# Altium footprint library SSOP.PcbLib: 7 footprints
Each footprint in its own frame and in the unit in brackets; x right, y up, seen from the top. Pads: shape width x height; smd on the part's side, far side on the other; paste and mask are expansions set on the pad; w line width, h text height; cw(c..) or ccw(c..) is an arc to the next point about the centre after c.
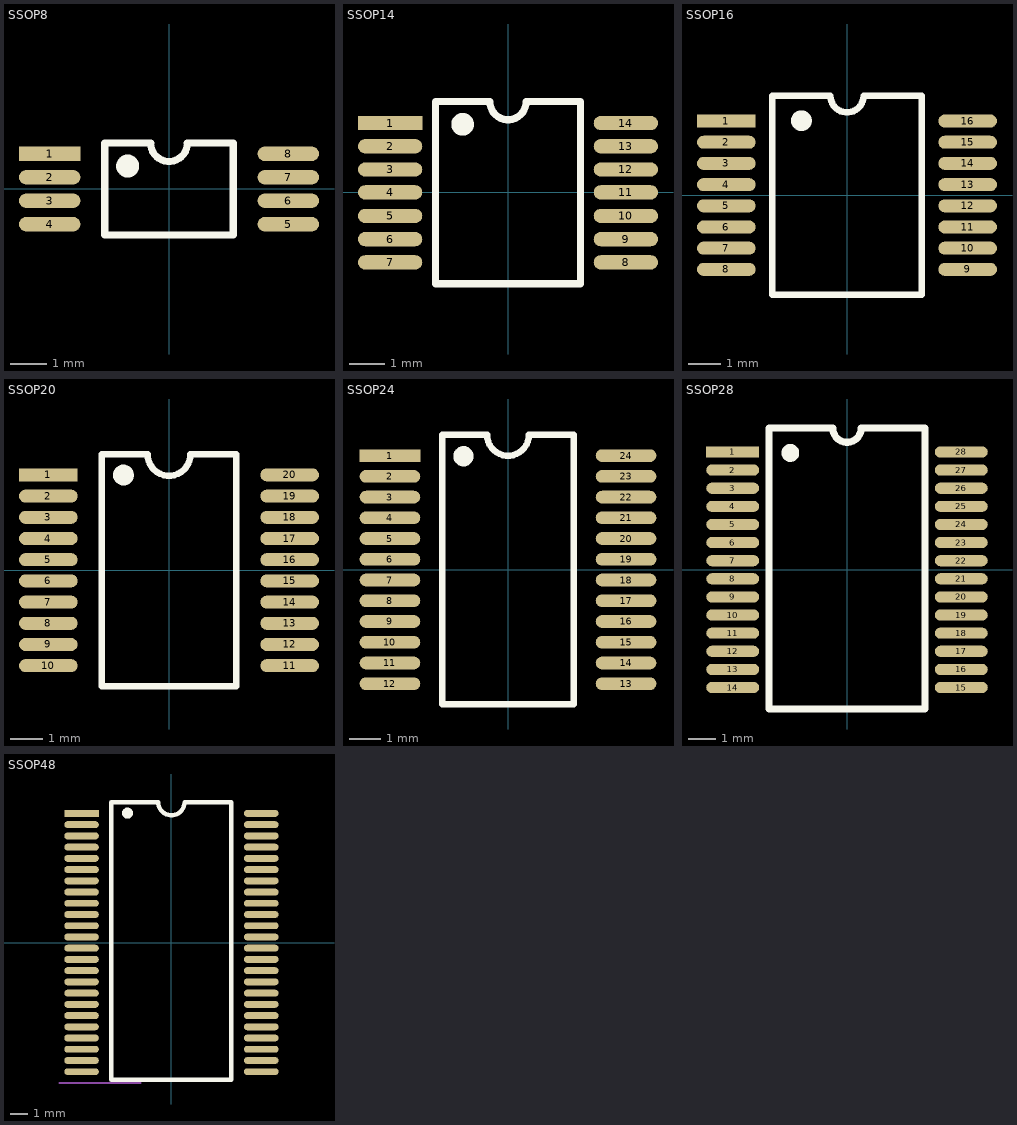
[diagram p0: the footprints below, top view; thin cyan lines are the x and y axes]

## SSOP8 [mm]
pads (8):
  rect 1.7x0.4 smd: 1(-3.3,0.975)
  oval 1.7x0.4 smd: 2(-3.3,0.325) 3(-3.3,-0.325) 4(-3.3,-0.975) 5(3.3,-0.975) 6(3.3,-0.325) 7(3.3,0.325) 8(3.3,0.975)
Top Overlay:
  circle w0.381: c-1.143,0.635 r0.127
  lines w0.2: -1.778,-1.27 1.778,-1.27 1.778,1.27 0.508,1.27 cw(c0,1.27) -0.508,1.27 -1.778,1.27 -1.778,-1.27
3D body "SSOP8.STEP": height 1.25, standoff -0.03, extent -3.202,-1.722 3.202,1.778

## SSOP14 [mm]
height 1.1
pads (14):
  rect 1.8x0.4 smd: 1(-3.3,1.94)
  oval 1.8x0.4 smd: 2(-3.3,1.29) 3(-3.3,0.64) 4(-3.3,0) 5(-3.3,-0.66) 6(-3.3,-1.31) 7(-3.3,-1.96) 8(3.3,-1.96) 9(3.3,-1.31) 10(3.3,-0.66) 11(3.3,0) 12(3.3,0.64) 13(3.3,1.29) 14(3.3,1.94)
Top Overlay:
  circle w0.381: c-1.27,1.905 r0.127
  lines w0.2: -2.032,-2.56 -2.032,2.54 -0.508,2.54 ccw(c0,2.54) 0.508,2.54 2.032,2.54 2.032,-2.56 -2.032,-2.56
3D body "SSOP14.STEP": height 1.25, standoff -0.03, extent -3.278,-2.511 3.126,2.489

## SSOP16 [mm]
pads (16):
  rect 1.8x0.4 smd: 1(-3.7,2.275)
  oval 1.8x0.4 smd: 2(-3.7,1.625) 3(-3.7,0.975) 4(-3.7,0.325) 5(-3.7,-0.325) 6(-3.7,-0.975) 7(-3.7,-1.625) 8(-3.7,-2.275) 9(3.7,-2.275) 10(3.7,-1.625) 11(3.7,-0.975) 12(3.7,-0.325) 13(3.7,0.325) 14(3.7,0.975) 15(3.7,1.625) 16(3.7,2.275)
Top Overlay:
  circle w0.381: c-1.397,2.286 r0.127
  lines w0.2: -2.286,-3.048 -2.286,3.048 -0.508,3.048 ccw(c0,3.048) 0.508,3.048 2.286,3.048 2.286,-3.048 -2.286,-3.048
3D body "SSOP16.STEP": height 1.65, standoff -0.03, extent -3.878,-3.076 3.827,3.124

## SSOP20 [mm]
pads (20):
  rect 1.8x0.4 smd: 1(-3.7,2.925)
  oval 1.8x0.4 smd: 2(-3.7,2.275) 3(-3.7,1.625) 4(-3.7,0.975) 5(-3.7,0.325) 6(-3.7,-0.325) 7(-3.7,-0.975) 8(-3.7,-1.625) 9(-3.7,-2.275) 10(-3.7,-2.925) 11(3.7,-2.925) 12(3.7,-2.275) 13(3.7,-1.625) 14(3.7,-0.975) 15(3.7,-0.325) 16(3.7,0.325) 17(3.7,0.975) 18(3.7,1.625) 19(3.7,2.275) 20(3.7,2.925)
Top Overlay:
  circle w0.381: c-1.397,2.921 r0.127
  lines w0.2: -2.065,-3.556 -2.065,3.556 -0.655,3.556 ccw(c0,3.556) 0.655,3.556 2.065,3.556 2.065,-3.556 -2.065,-3.556
3D body "SSOP20.STEP": height 1.65, standoff -0.03, extent -3.801,-3.593 3.903,3.607

## SSOP24 [mm]
pads (24):
  rect 1.9x0.4 smd: 1(-3.7,3.575)
  oval 1.9x0.4 smd: 2(-3.7,2.925) 3(-3.7,2.275) 4(-3.7,1.625) 5(-3.7,0.975) 6(-3.7,0.325) 7(-3.7,-0.325) 8(-3.7,-0.975) 9(-3.7,-1.625) 10(-3.7,-2.275) 11(-3.7,-2.925) 12(-3.7,-3.575) 13(3.7,-3.575) 14(3.7,-2.925) 15(3.7,-2.275) 16(3.7,-1.625) 17(3.7,-0.975) 18(3.7,-0.325) 19(3.7,0.325) 20(3.7,0.975) 21(3.7,1.625) 22(3.7,2.275) 23(3.7,2.925) 24(3.7,3.575)
Top Overlay:
  circle w0.381: c-1.397,3.556 r0.127
  lines w0.2: -2.065,-4.225 -2.065,4.225 -0.655,4.225 ccw(c0,4.225) 0.655,4.225 2.065,4.225 2.065,-4.225 -2.065,-4.225
3D body "SSOP24.STEP": height 1.65, standoff -0.03, extent -3.751,-4.16 3.954,4.14

## SSOP28 [mm]
pads (28):
  rect 1.9x0.4 smd: 1(-4.1,4.225)
  oval 1.9x0.4 smd: 2(-4.1,3.575) 3(-4.1,2.925) 4(-4.1,2.275) 5(-4.1,1.625) 6(-4.1,0.975) 7(-4.1,0.325) 8(-4.1,-0.325) 9(-4.1,-0.975) 10(-4.1,-1.625) 11(-4.1,-2.275) 12(-4.1,-2.925) 13(-4.1,-3.575) 14(-4.1,-4.225) 15(4.1,-4.225) 16(4.1,-3.575) 17(4.1,-2.925) 18(4.1,-2.275) 19(4.1,-1.625) 20(4.1,-0.975) 21(4.1,-0.325) 22(4.1,0.325) 23(4.1,0.975) 24(4.1,1.625) 25(4.1,2.275) 26(4.1,2.925) 27(4.1,3.575) 28(4.1,4.225)
Top Overlay:
  circle w0.381: c-2.032,4.191 r0.127
  lines w0.254: -2.804,-5 -2.804,5.08 -0.508,5.08 ccw(c0,5.08) 0.508,5.08 2.796,5.08 2.796,-5 -2.804,-5
3D body "SSOP28.STEP": height 1.65, standoff -0.03, extent -3.878,-5.095 3.827,5.105

## SSOP48 [mm]
pads (48):
  rect 2x0.4 smd: 1(-5.2,7.475)
  oval 2x0.4 smd: 2(-5.2,6.825) 3(-5.2,6.175) 4(-5.2,5.525) 5(-5.2,4.875) 6(-5.2,4.225) 7(-5.2,3.575) 8(-5.2,2.925) 9(-5.2,2.275) 10(-5.2,1.625) 11(-5.2,0.975) 12(-5.2,0.325) 13(-5.2,-0.325) 14(-5.2,-0.975) 15(-5.2,-1.625) 16(-5.2,-2.275) 17(-5.2,-2.925) 18(-5.2,-3.575) 19(-5.2,-4.225) 20(-5.2,-4.875) 21(-5.2,-5.525) 22(-5.2,-6.175) 23(-5.2,-6.825) 24(-5.2,-7.475) 25(5.2,-7.475) 26(5.2,-6.825) 27(5.2,-6.175) 28(5.2,-5.525) 29(5.2,-4.875) 30(5.2,-4.225) 31(5.2,-3.575) 32(5.2,-2.925) 33(5.2,-2.275) 34(5.2,-1.625) 35(5.2,-0.975) 36(5.2,-0.325) 37(5.2,0.325) 38(5.2,0.975) 39(5.2,1.625) 40(5.2,2.275) 41(5.2,2.925) 42(5.2,3.575) 43(5.2,4.225) 44(5.2,4.875) 45(5.2,5.525) 46(5.2,6.175) 47(5.2,6.825) 48(5.2,7.475)
Top Overlay:
  circle w0.381: c-2.54,7.493 r0.127
  lines w0.254: -3.475,-7.95 -3.475,8.128 -0.762,8.128 ccw(c0,8.128) 0.762,8.128 3.475,8.128 3.475,-7.95 -3.475,-7.95
Mechanical 15:
  lines w0.1: -6.477,-8.128 -1.778,-8.128
3D body "SSOP48.STEP": height 2.45, standoff -0.03, extent -4.875,-7.999 5.129,8.001